# EAGLE library part ATTINY261A-SU (library project_specific_parts)
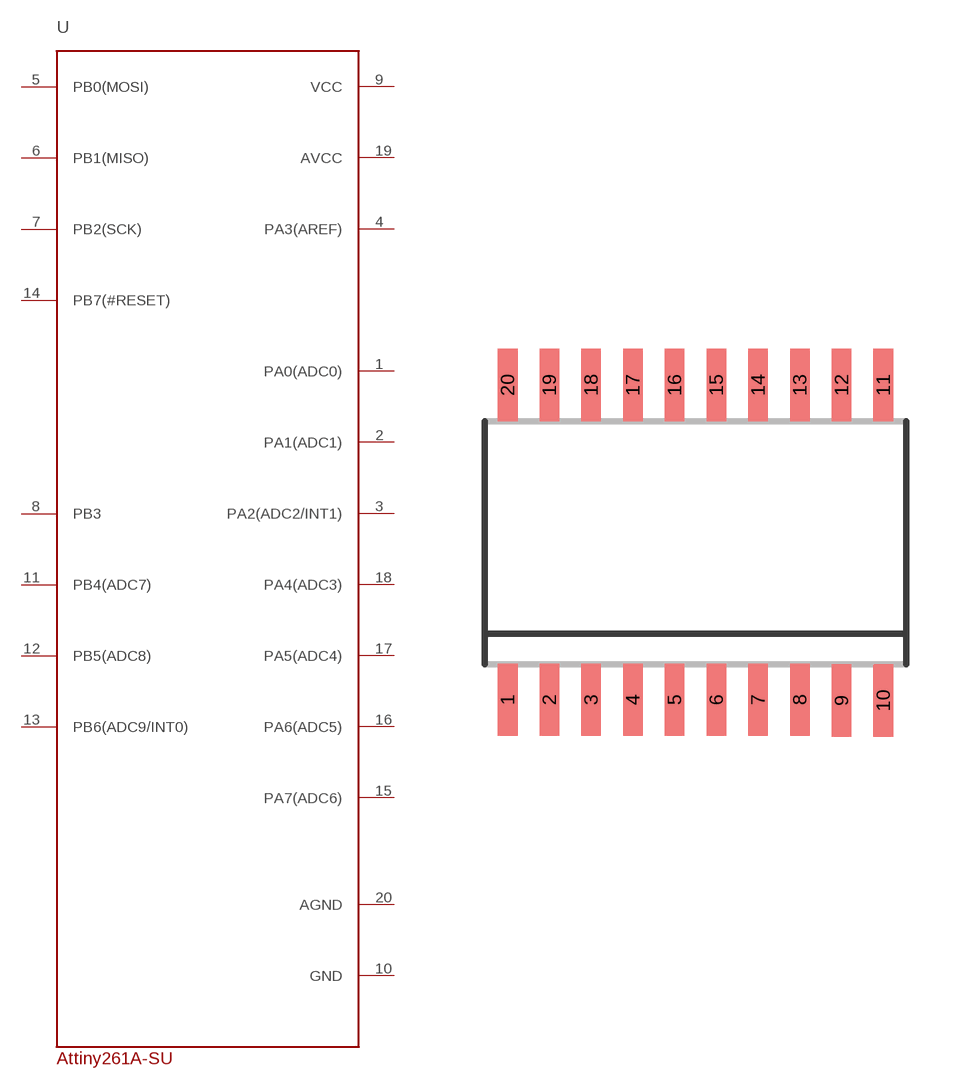
[diagram p2: symbol with the pads of SOIC20R; footprint SOIC20R]

Designator prefix -

## ATTINY261A-SU  [SOIC20R]
1  PA0(ADC0)
2  PA1(ADC1)
3  PA2(ADC2/INT1)
4  PA3(AREF)
5  PB0(MOSI)
6  PB1(MISO)
7  PB2(SCK)
8  PB3
9  VCC
10  GND
11  PB4(ADC7)
12  PB5(ADC8)
13  PB6(ADC9/INT0)
14  PB7(#RESET)
15  PA7(ADC6)
16  PA6(ADC5)
17  PA5(ADC4)
18  PA4(ADC3)
19  AVCC
20  AGND

## Footprint SOIC20R (pad centres in mm)
20-LeadStandard Small Outline Package SOIC Wide Body (R-20) Source: http://www.analog.com/static/imported-files/data_sheets/AD811.pdf
smd 0.6 x 2.2: 1 -5.715,-4.775; 2 -4.445,-4.775; 3 -3.175,-4.775; 4 -1.905,-4.775; 5 -0.635,-4.775; 6 0.635,-4.775; 7 1.905,-4.775; 8 3.175,-4.775; 9 4.445,-4.8; 10 5.715,-4.8; 11 5.715,4.8; 12 4.445,4.8; 13 3.175,4.8; 14 1.905,4.8; 15 0.635,4.8; 16 -0.635,4.8; 17 -1.905,4.8; 18 -3.175,4.8; 19 -4.445,4.8; 20 -5.715,4.8